# EAGLE library part DIL8 (library gm-ics)
Dual In Line
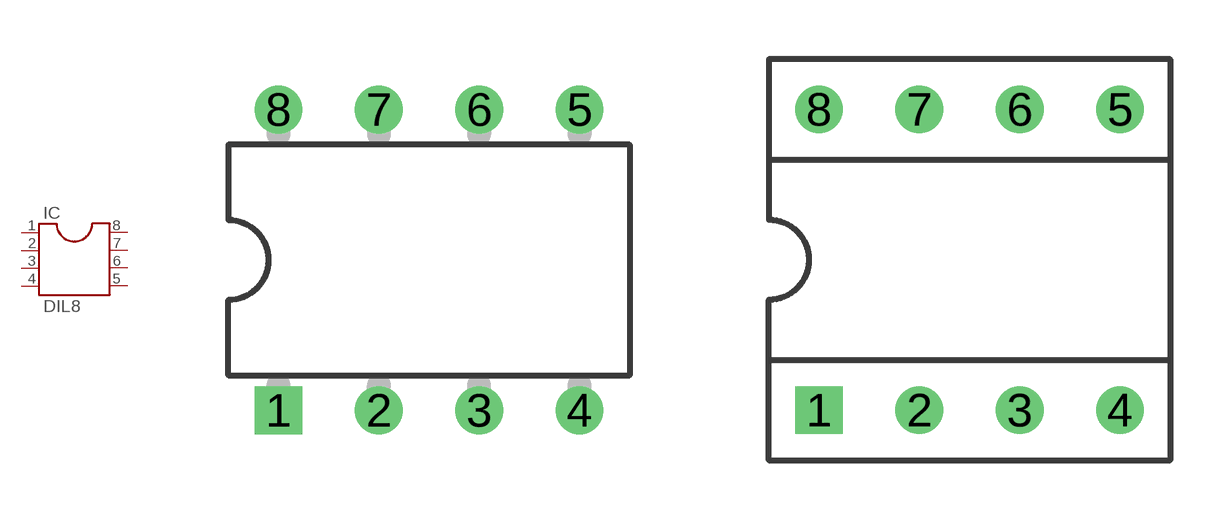
[diagram p22: symbol with the pads of DIL08; footprints DIL08, SOCKED-08]

Designator prefix IC

## DIL8  [DIL08]
1  1  pas
2  2  pas
3  3  pas
4  4  pas
5  5  pas
6  6  pas
7  7  pas
8  8  pas

## DIL8S  [SOCKED-08]
Pads as for DIL08

## DIL8STRCH  [MN3005]
Pads as for DIL08

## Footprint DIL08 (pad centres in mm)
Dual In Line Package
drill 0.7 square: 1 -3.81,-3.81
drill 0.7 round: 2 -1.27,-3.81; 3 1.27,-3.81; 4 3.81,-3.81; 5 3.81,3.81; 6 1.27,3.81; 7 -1.27,3.81; 8 -3.81,3.81

## Footprint SOCKED-08 (pad centres in mm)
Dual In Line Socket
drill 0.7 square: 1 -3.81,-3.81
drill 0.7 round: 2 -1.27,-3.81; 3 1.27,-3.81; 4 3.81,-3.81; 5 3.81,3.81; 6 1.27,3.81; 7 -1.27,3.81; 8 -3.81,3.81

## Footprint MN3005 (pad centres in mm)
drill 0.7 square: 1 -8.89,-3.81
drill 0.7 round: 2 -6.35,-3.81; 3 6.35,-3.81; 4 8.89,-3.81; 5 8.89,3.81; 6 6.35,3.81; 7 -6.35,3.81; 8 -8.89,3.81